# Altium footprint library pslibV004.PcbLib: 13 footprints
Each footprint in its own frame and in the unit in brackets; x right, y up, seen from the top. Pads: shape width x height; smd on the part's side, far side on the other; paste and mask are expansions set on the pad; w line width, h text height; cw(c..) or ccw(c..) is an arc to the next point about the centre after c.
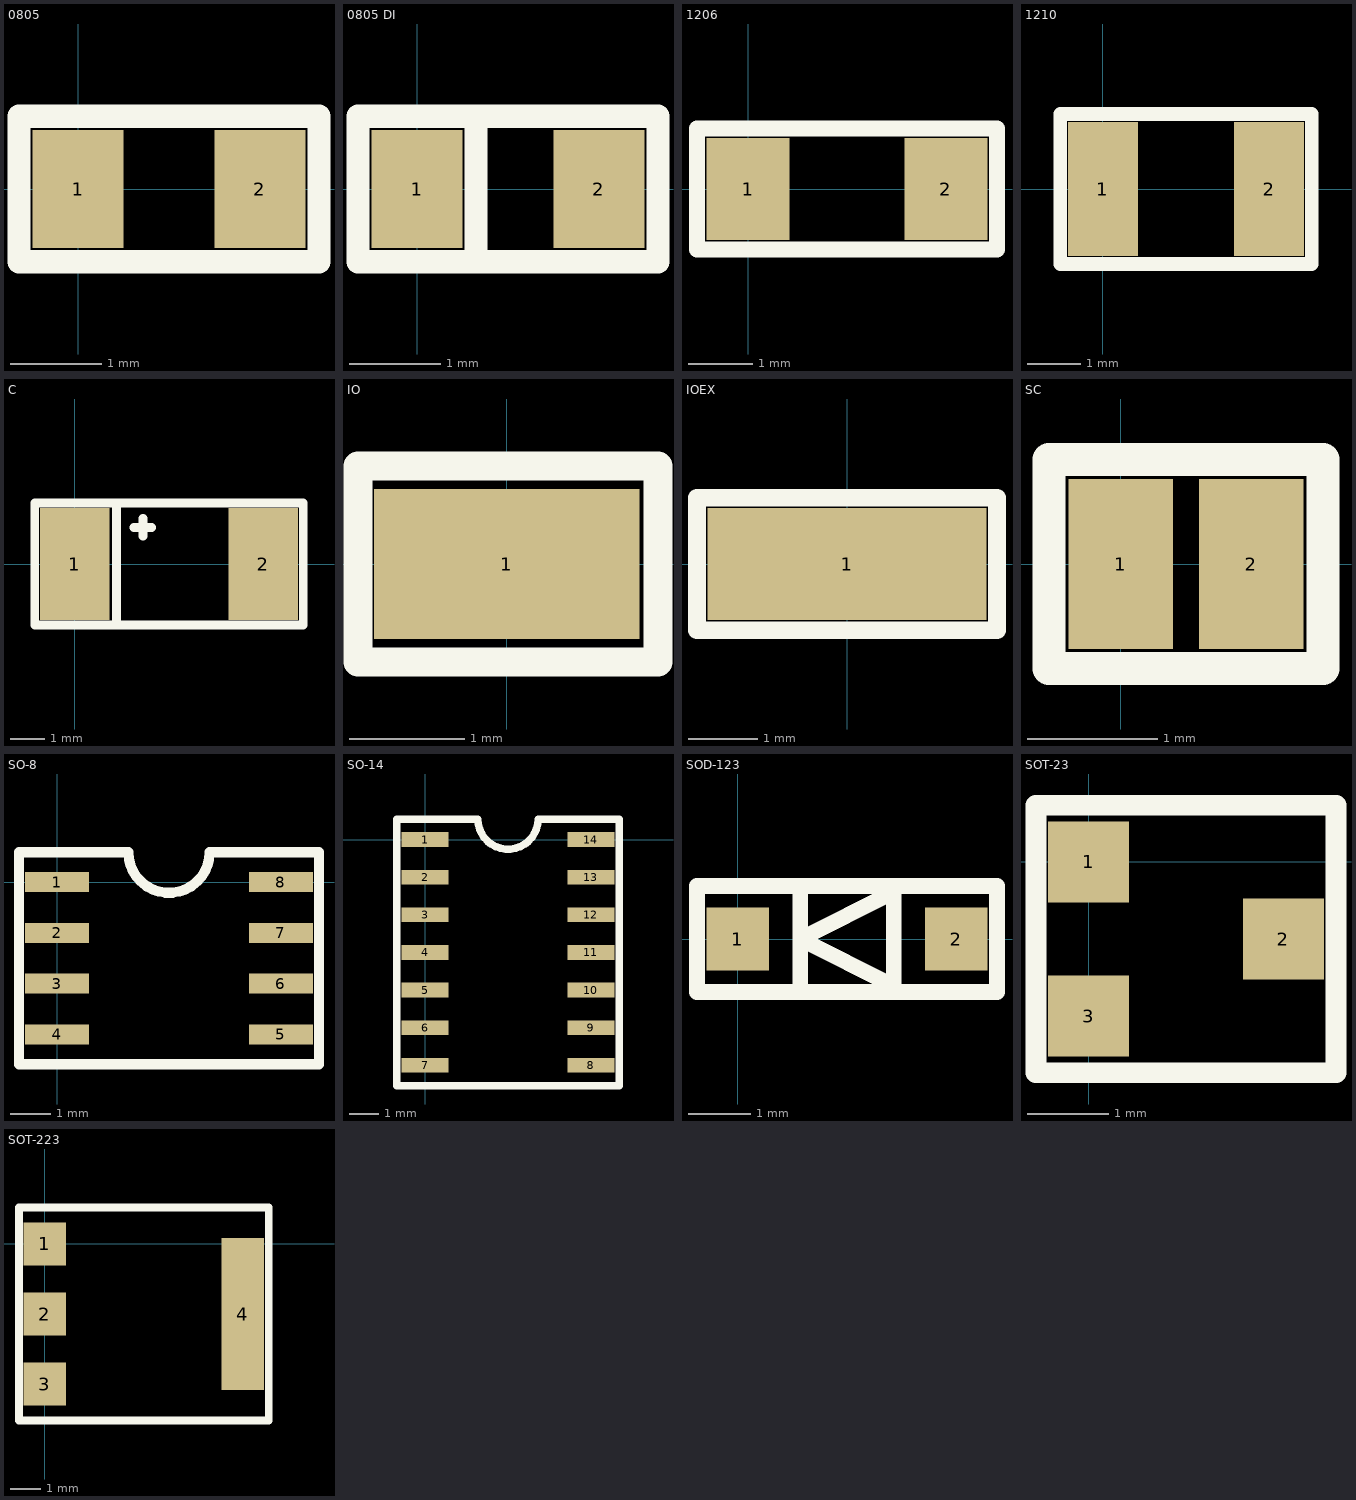
[diagram p0: the footprints below, top view; thin cyan lines are the x and y axes]

## 0805 [mm]
pads (2):
  rect 1x1.3 smd: 1(0,0) 2(2,0)
Top Overlay:
  lines w0.254: -0.65,-0.8 2.65,-0.8 2.65,0.8 -0.65,0.8 -0.65,-0.8

## 0805 DI [mm]
pads (2):
  rect 1x1.3 smd: 1(0,0) 2(2,0)
Top Overlay:
  lines w0.254: 0.65,-0.8 0.65,0.8 ; -0.65,-0.8 -0.65,0.8 2.65,0.8 2.65,-0.8 -0.65,-0.8

## 1206 [mm]
pads (2):
  rect 1.3x1.6 smd: 1(0,0) 2(3.1,0)
Top Overlay:
  lines w0.254: -0.8,-0.95 -0.8,0.95 3.9,0.95 3.9,-0.95 -0.8,-0.95

## 1210 [mm]
pads (2):
  rect 1.3x2.5 smd: 1(0,0) 2(3.1,0)
Top Overlay:
  lines w0.254: -0.8,-1.4 -0.8,1.4 3.9,1.4 3.9,-1.4 -0.8,-1.4

## C [mm]
pads (2):
  rect 2x3.2 smd: 1(0,0) 2(5.4,0)
Top Overlay:
  lines w0.254: 1.2,-1.725 1.2,1.75 ; 1.7,1.05 2.2,1.05 ; 1.95,0.8 1.95,1.3 ; -1.15,-1.75 6.55,-1.75 6.55,1.75 -1.15,1.75 -1.15,-1.75

## IO [mm]
pads (1):
  rect 2.3x1.3 smd: 1(0,0)
Top Overlay:
  lines w0.254: -1.29,-0.85 -1.29,0.85 1.31,0.85 1.31,-0.85 -1.29,-0.85

## IOEX [mm]
pads (1):
  rect 4x1.6 smd: 1(0,0)
Top Overlay:
  lines w0.254: -2.15,-0.95 -2.15,0.95 2.15,0.95 2.15,-0.95 -2.15,-0.95

## SC [mm]
pads (2):
  rect 0.8x1.3 smd: 1(0,0) 2(1,0)
Top Overlay:
  lines w0.254: -0.55,-0.8 1.55,-0.8 1.55,0.8 -0.55,0.8 -0.55,-0.8

## SO-8 [mm]
pads (8):
  rect 1.6x0.5 smd: 1(0,0) 2(0,-1.27) 3(0,-2.54) 4(0,-3.81) 5(5.6,-3.81) 6(5.6,-2.54) 7(5.6,-1.27) 8(5.6,0)
Top Overlay:
  lines w0.254: -0.95,-4.555 -0.95,0.745 1.784,0.745 ccw(c2.8,0.745) 3.816,0.745 6.55,0.745 6.55,-4.555 -0.95,-4.555

## SO-14 [mm]
pads (14):
  rect 1.6x0.5 smd: 1(0,0) 2(0,-1.27) 3(0,-2.54) 4(0,-3.81) 5(0,-5.08) 6(0,-6.35) 7(0,-7.62) 8(5.6,-7.62) 9(5.6,-6.35) 10(5.6,-5.08) 11(5.6,-3.81) 12(5.6,-2.54) 13(5.6,-1.27) 14(5.6,0)
Top Overlay:
  lines w0.254: -0.95,-8.31 6.55,-8.31 6.55,0.69 3.816,0.69 cw(c2.8,0.69) 1.784,0.69 -0.95,0.69 -0.95,-8.31

## SOD-123 [mm]
pads (2):
  rect 1x1 smd: 1(0,0) 2(3.5,0)
Top Overlay:
  lines w0.25: 1,-0.75 1,0.75 ; 1,0 2.5,0.75 2.5,-0.75 1,0
  lines w0.254: -0.65,-0.85 4.15,-0.85 4.15,0.85 -0.65,0.85 -0.65,-0.85

## SOT-23 [mm]
pads (3):
  rect 1x1 smd: 1(0,0) 2(2.4,-0.95) 3(0,-1.9)
Top Overlay:
  lines w0.254: -0.65,-2.6 -0.65,0.7 3.05,0.7 3.05,-2.6 -0.65,-2.6

## SOT-223 [mm]
pads (4):
  rect 1.4x1.4 smd: 1(0,0) 2(0,-2.3) 3(0,-4.6)
  rect 1.4x5 smd: 4(6.5,-2.3)
Top Overlay:
  lines w0.254: -0.85,-5.8 -0.85,1.2 7.35,1.2 7.35,-5.8 -0.85,-5.8